# Altium schematic symbol library W25Q80DVSSIG.SchLib: 1 symbol
Pins are listed as number, name and electrical type; pins without a type are passive.

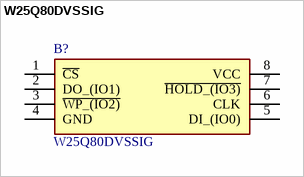
[diagram p0: symbol W25Q80DVSSIG]

## W25Q80DVSSIG
designator B?
8Mb Serial NOR Flash 104MHz SOP8; Manufacturer_Name: Winbond; Geometry.Height: 2.16mm; Manufacturer_Part_Number: W25Q80DVSSIG; Mouser Part Number: 454-W25Q80DVSSIG; Mouser Price/Stock: https://www.mouser.co.uk/ProductDetail/Winbond/W25Q80DVSSIG?qs=qSfuJ%252Bfl%2Fd6z%2FQYNv5lpMA%3D%3D; Arrow Part Number: W25Q80DVSSIG; Arrow Price/Stock: https://www.arrow.com/en/products/w25q80dvssig/winbond-electronics?region=nac; Datasheet Link: https://www.winbond.com/hq/search-resource-file.jsp?partNo=W25Q80DVSSIG&type=datasheet
footprint SOIC127P790X216-8N
pins: 1 ~{CS}, 2 DO_(IO1), 3 ~{WP_(IO2)}, 4 GND, 5 DI_(IO0), 6 CLK, 7 ~{HOLD_(IO3)}, 8 VCC